# Altium schematic symbol library IC.SchLib: 15 symbols
Pins are listed as number, name and electrical type; pins without a type are passive.

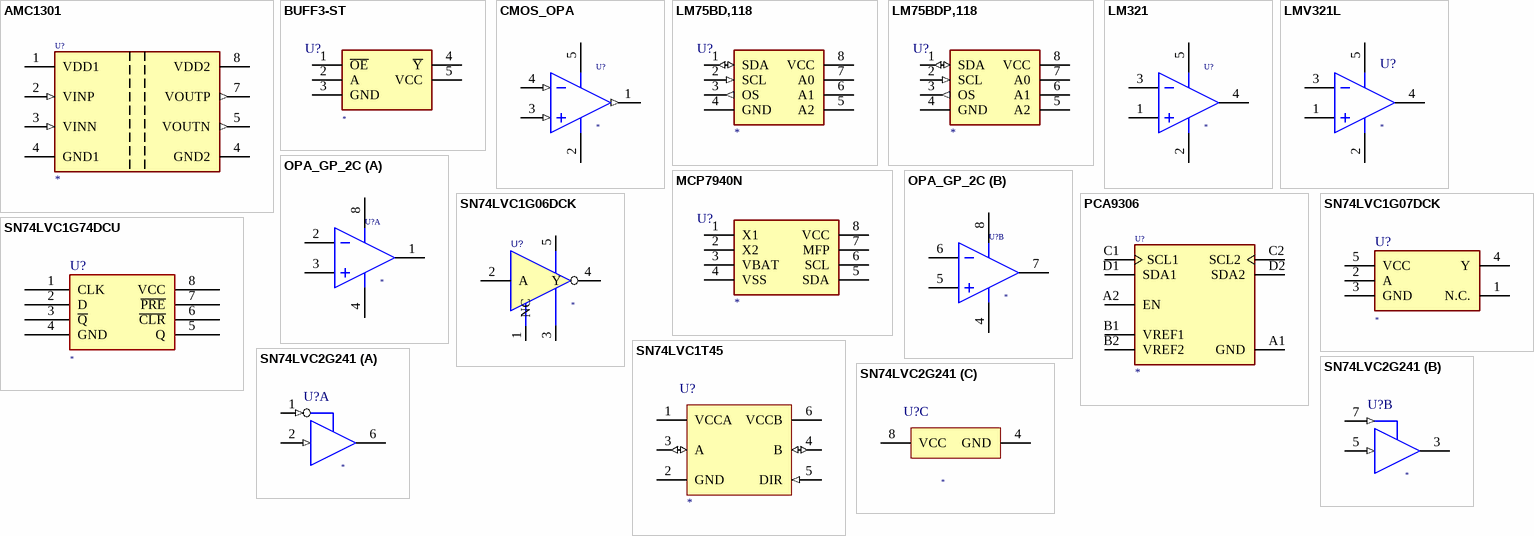
[diagram p0: symbols AMC1301 to SN74LVC2G241]

## AMC1301
designator U?
IC OPAMP ISOLATION; Manufacturer Part Number: *
pins: 1 VDD1 (power) "Low-voltage-side reference supply voltage for SCL1 and SDA1", 2 VINP (in) "Serial data, low-voltage side", 3 VINN (in) "Low-voltage-side reference supply voltage for SCL1 and SDA1", 4 GND2 (power) "Ground, 0  V", 4 GND1 (power) "Low-voltage-side reference supply voltage for SCL1 and SDA1", 5 VOUTN (out) "Ground, 0  V", 7 VOUTP (out) "Serial data, high-voltage side", 8 VDD2 (power) "Ground, 0  V"

## BUFF3-ST
designator U?
BUFFER TRI-ST; Manufacturer Part Number: *
pins: 1 ~{OE}, 2 A, 3 GND (power), 4 ~{Y}, 5 VCC (power)

## CMOS_OPA
designator U?
OPAMP GP 1 CIRCUIT SOT23-5; Manufacturer Part Number: *
pins: 1 OUT (out), 2 VS-, 3 IN+ (in), 4 IN- (in), 5 VS+

## LM75BD,118
designator U?
TEMP SENSE IC; Manufacturer Part Number: *
pins: 1 SDA (io), 2 SCL (in), 3 OS (out), 4 GND (power), 5 A2, 6 A1, 7 A0, 8 VCC (power)

## LM75BDP,118
designator U?
TEMP SENSE IC; Manufacturer Part Number: *
pins: 1 SDA (io), 2 SCL (in), 3 OS (out), 4 GND (power), 5 A2, 6 A1, 7 A0, 8 VCC (power)

## LM321
designator U?
OPAMP GP 1 CIRCUIT SOT23-5; Manufacturer Part Number: *
pins: 1 IN+, 2 VS-, 3 IN-, 4 OUT, 5 VS+

## LMV321L
designator U?
OPAMP GP 1 CIRCUIT SOT23-5; Manufacturer Part Number: *
pins: 1 IN+, 2 VS-, 3 IN-, 4 OUT, 5 VS+

## MCP7940N
designator U?
RTC CLK/CALENDAR I2C; Manufacturer Part Number: *
pins: 1 X1, 2 X2, 3 VBAT, 4 VSS, 5 SDA, 6 SCL, 7 MFP, 8 VCC

## OPA_GP_2C
designator U?
OPAMP GP 2 CIRCUIT 8SOIC; Manufacturer Part Number: *
pins on every part: 4 V-, 8 V+
part A pins: 1 OUT A, 2 IN A-, 3 IN A+
part B pins: 5 IN B+, 6 IN B-, 7 OUT B

## PCA9306
designator U?
TRNSLTR BIDIRECTIONAL; Manufacturer Part Number: *
pins: A1 GND "Ground, 0  V", A2 EN "Switch enable input", B1 VREF1 "Low-voltage-side reference supply voltage for SCL1 and SDA1", B2 VREF2 "High-voltage-side reference supply voltage for SCL2 and SDA2", C1 SCL1 "Serial clock, low-voltage side", C2 SCL2 "Serial clock, high-voltage side", D1 SDA1 "Serial data, low-voltage side", D2 SDA2 "Serial data, high-voltage side"

## SN74LVC1G06DCK
designator U?
BUF INVERT 5.5V; Manufacturer Part Number: *
pins: 1 NC, 2 A, 3 GND, 4 Y, 5 VCC

## SN74LVC1G07DCK
designator U?
BUF NON-INVERT 5.5V; Manufacturer Part Number: *
pins: 1 N.C., 2 A, 3 GND, 4 Y, 5 VCC

## SN74LVC1G74DCU
designator U?
FF D-TYPE SNGL 1BIT; Manufacturer Part Number: *
pins: 1 CLK, 2 D, 3 ~{Q}, 4 GND, 5 Q, 6 ~{CLR}, 7 ~{PRE}, 8 VCC

## SN74LVC1T45
designator U?
TRNSLTR BIDIRECTIONAL; Manufacturer Part Number: *
footprint DCK0006A_L (SOT23, 6-Leads, Body 2.15x1.4mm, Pitch 0.65mm, IPC High Density)
pins: 1 VCCA (power), 2 GND (power), 3 A (io), 4 B (io), 5 DIR (in), 6 VCCB (power)

## SN74LVC2G241
designator U?
BUFFER NON-INVERT 5.5V; Manufacturer Part Number: *
part A pins: 1 1~{OE} (in), 2 1A (in), 6 1Y (hiz)
part B pins: 3 2Y (hiz), 5 2A (in), 7 2OE (in)
part C pins: 4 GND (power), 8 VCC (power)